# Altium schematic symbol library Multiplexores.SchLib: 3 symbols
Pins are listed as number, name and electrical type; pins without a type are passive.

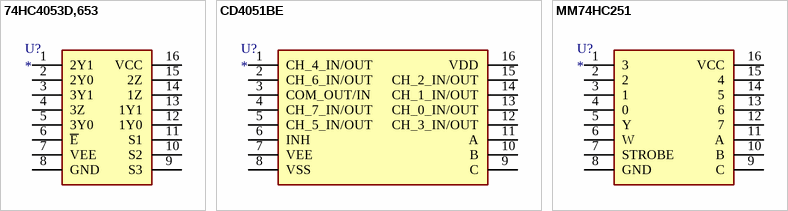
[diagram p0: symbols 74HC4053D,653 to MM74HC251]

## 74HC4053D,653
designator U?
ComponentLink1Description: datasheet; ComponentLink1URL: https://www.farnell.com/datasheets/2051433.pdf
footprint SOIC127P600X175-16N
pins: 1 2Y1, 2 2Y0, 3 3Y1, 4 3Z, 5 3Y0, 6 ~{E}, 7 VEE, 8 GND, 9 S3, 10 S2, 11 S1, 12 1Y0, 13 1Y1, 14 1Z, 15 2Z, 16 VCC

## CD4051BE
designator U?
ComponentLink1Description: datasheet; ComponentLink1URL: https://www.ti.com/lit/ds/symlink/cd4053b.pdf?ts=1724417655920&ref_url=https%253A%252F%252Fwww.mouser.ca%252F
footprint DIP-16
pins: 1 CH_4_IN/OUT, 2 CH_6_IN/OUT, 3 COM_OUT/IN, 4 CH_7_IN/OUT, 5 CH_5_IN/OUT, 6 INH, 7 VEE, 8 VSS, 9 C, 10 B, 11 A, 12 CH_3_IN/OUT, 13 CH_0_IN/OUT, 14 CH_1_IN/OUT, 15 CH_2_IN/OUT, 16 VDD

## MM74HC251
designator U?
ComponentLink1Description: datasheet; ComponentLink1URL: https://www.mouser.es/datasheet/2/308/mm74hc251-1193475.pdf
footprint SOIC127P600X175-16N
pins: 1 3, 2, 3 1, 4 0, 5 Y, 6 W, 7 STROBE, 8 GND, 9 C, 10 B, 11 A, 12 7, 13 6, 14 5, 15 4, 16 VCC